# EAGLE library part CY15B102Q-SXET (library CY15B102Q-SXET)
FRAM 2Mbit Serial-SPI 3.3V Automotive 8-Pin SOIC T/R Source: Datasheet <https://www.mouser.in/datasheet/2/100/CYPR_S_A0004022923_1-2540860.pdf>
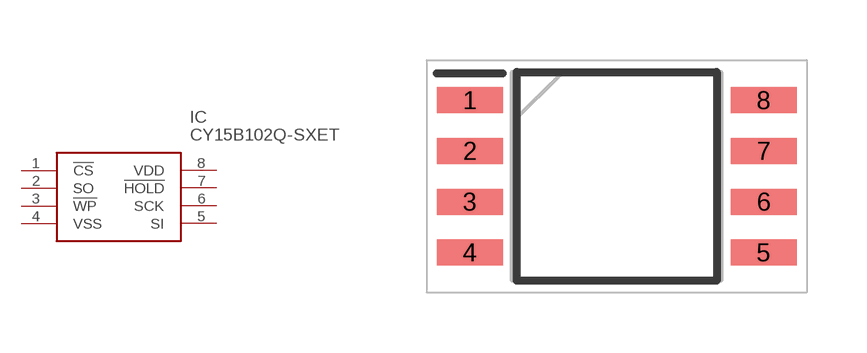
[diagram p0: symbol with the pads of SOIC127P800X203-8N; footprint SOIC127P800X203-8N]

Designator prefix IC

## CY15B102Q-SXET (Description: FRAM 2Mbit Serial-SPI 3.3V Automotive 8-Pin SOIC T/R; Height: 2.03mm; Manufacturer_Name: Infineon; Manufacturer_Part_Number: CY15B102Q-SXET; Mouser_Part_Number: 727-CY15B102Q-SXET; Mouser_Price-Stock: https://www.mouser.co.uk/ProductDetail/Infineon-Technologies/CY15B102Q-SXET?qs=3FnuM6ZipRJPdZOLuRNzcg%3D%3D)  [SOIC127P800X203-8N]
1  !CS
2  SO
3  !WP
4  VSS
5  SI
6  SCK
7  !HOLD
8  VDD

## Footprint SOIC127P800X203-8N (pad centres in mm)
8-pin SOIC (208 Mils) 001-85261
smd 1.65 x 0.65: 1 -3.675,1.905; 2 -3.675,0.635; 3 -3.675,-0.635; 4 -3.675,-1.905; 5 3.675,-1.905; 6 3.675,-0.635; 7 3.675,0.635; 8 3.675,1.905